# Altium footprint library Linear_Technology_LT8614IUDC_PBF_0.PcbLib: 1 footprints
Each footprint in its own frame and in the unit in brackets; x right, y up, seen from the top. Pads: shape width x height; smd on the part's side, far side on the other; paste and mask are expansions set on the pad; w line width, h text height; cw(c..) or ccw(c..) is an arc to the next point about the centre after c.
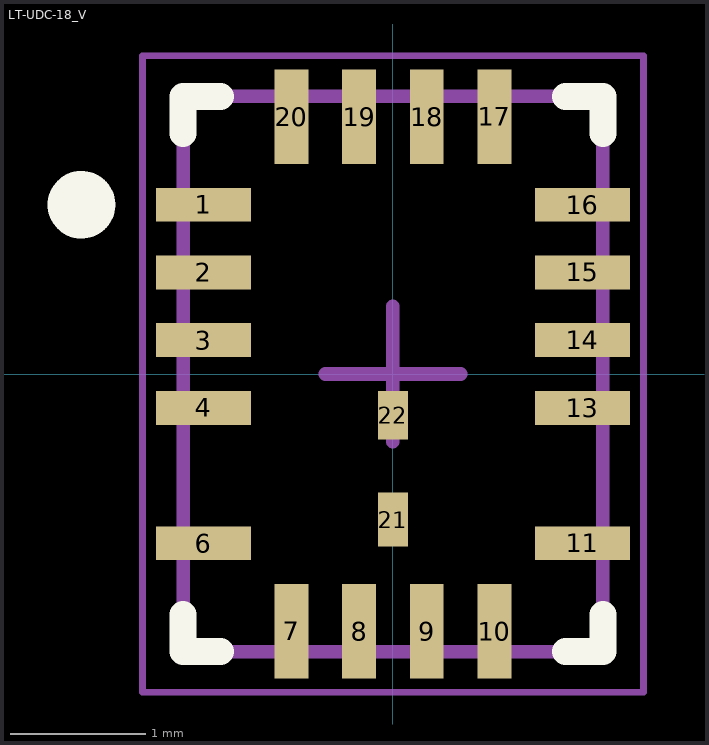
[diagram p0: the footprint, top view; thin cyan lines are the x and y axes]

## LT-UDC-18_V [mm] "QFN, 18-Leads, Body 3.1x4.1mm, Pitch 0.5mm, 2 Thermal Pad, Linear Recommend"
height 0.8
pads (20):
  rect 0.7x0.25 smd: 1(-1.4,1.25) 2(-1.4,0.75) 3(-1.4,0.25) 4(-1.4,-0.25) 6(-1.4,-1.25) 11(1.4,-1.25) 13(1.4,-0.25) 14(1.4,0.25) 15(1.4,0.75) 16(1.4,1.25)
  rect 0.25x0.7 smd: 7(-0.75,-1.9) 8(-0.25,-1.9) 9(0.25,-1.9) 10(0.75,-1.9) 17(0.75,1.9) 18(0.25,1.9) 19(-0.25,1.9) 20(-0.75,1.9)
  rect 0.22x0.4 smd: 21(0,-1.075)
  rect 0.22x0.356 smd: 22(0,-0.305)
Top Overlay:
  circle w0.25: c-2.3,1.25 r0.125
  lines w0.2: -1.55,-1.775 -1.55,-2.05 -1.275,-2.05 ; -1.55,1.775 -1.55,2.05 -1.275,2.05 ; 1.275,-2.05 1.55,-2.05 1.55,-1.775 ; 1.275,2.05 1.55,2.05 1.55,1.775
Mechanical 13:
  lines w0.1: -1.55,-2.05 -1.55,2.05 1.55,2.05 1.55,-2.05 -1.55,-2.05
Mechanical 15:
  lines w0.05: -1.85,-2.35 1.85,-2.35 1.85,2.35 -1.85,2.35 -1.85,-2.35
  lines w0.1: -0.5,0 0.5,0 ; 0,-0.5 0,0.5
3D body: height 0.8, standoff 0, extent -1.5,-2 1.5,2